# Altium footprint library MB631.PcbLib: 50 footprints (part 4 of 4)
Each footprint in its own frame and in the unit in brackets; x right, y up, seen from the top. Pads: shape width x height; smd on the part's side, far side on the other; paste and mask are expansions set on the pad; w line width, h text height; cw(c..) or ccw(c..) is an arc to the next point about the centre after c.
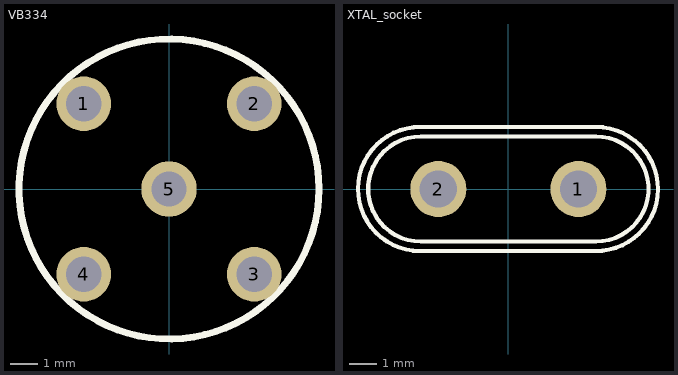
[diagram p3: the footprints below, top view; thin cyan lines are the x and y axes]

## VB334 [mm]
pads (5):
  round 2 hole 1.3: 1(-3.125,3.125) 2(3.125,3.125) 3(3.125,-3.125) 4(-3.125,-3.125)
  round 2.032 hole 1.27: 5(0,0)
Top Overlay:
  circle w0.254: c0,0 r5.5

## XTAL_socket [mil]
pads (2):
  round 80 hole 53: 1(100,0) 2(-100,0)
Top Overlay:
  lines w6: -126,-88.58 cw(c-126,0) -125.09,88.58 125,88.58 cw(c125,0) 124.07,-88.58 -126,-88.58 ; -125,-75 cw(c-125,0) -125,75 125,75 cw(c125,0) 125,-75 -125,-75